# Altium footprint library PcbLib1.PcbLib: 12 footprints
Each footprint in its own frame and in the unit in brackets; x right, y up, seen from the top. Pads: shape width x height; smd on the part's side, far side on the other; paste and mask are expansions set on the pad; w line width, h text height; cw(c..) or ccw(c..) is an arc to the next point about the centre after c.
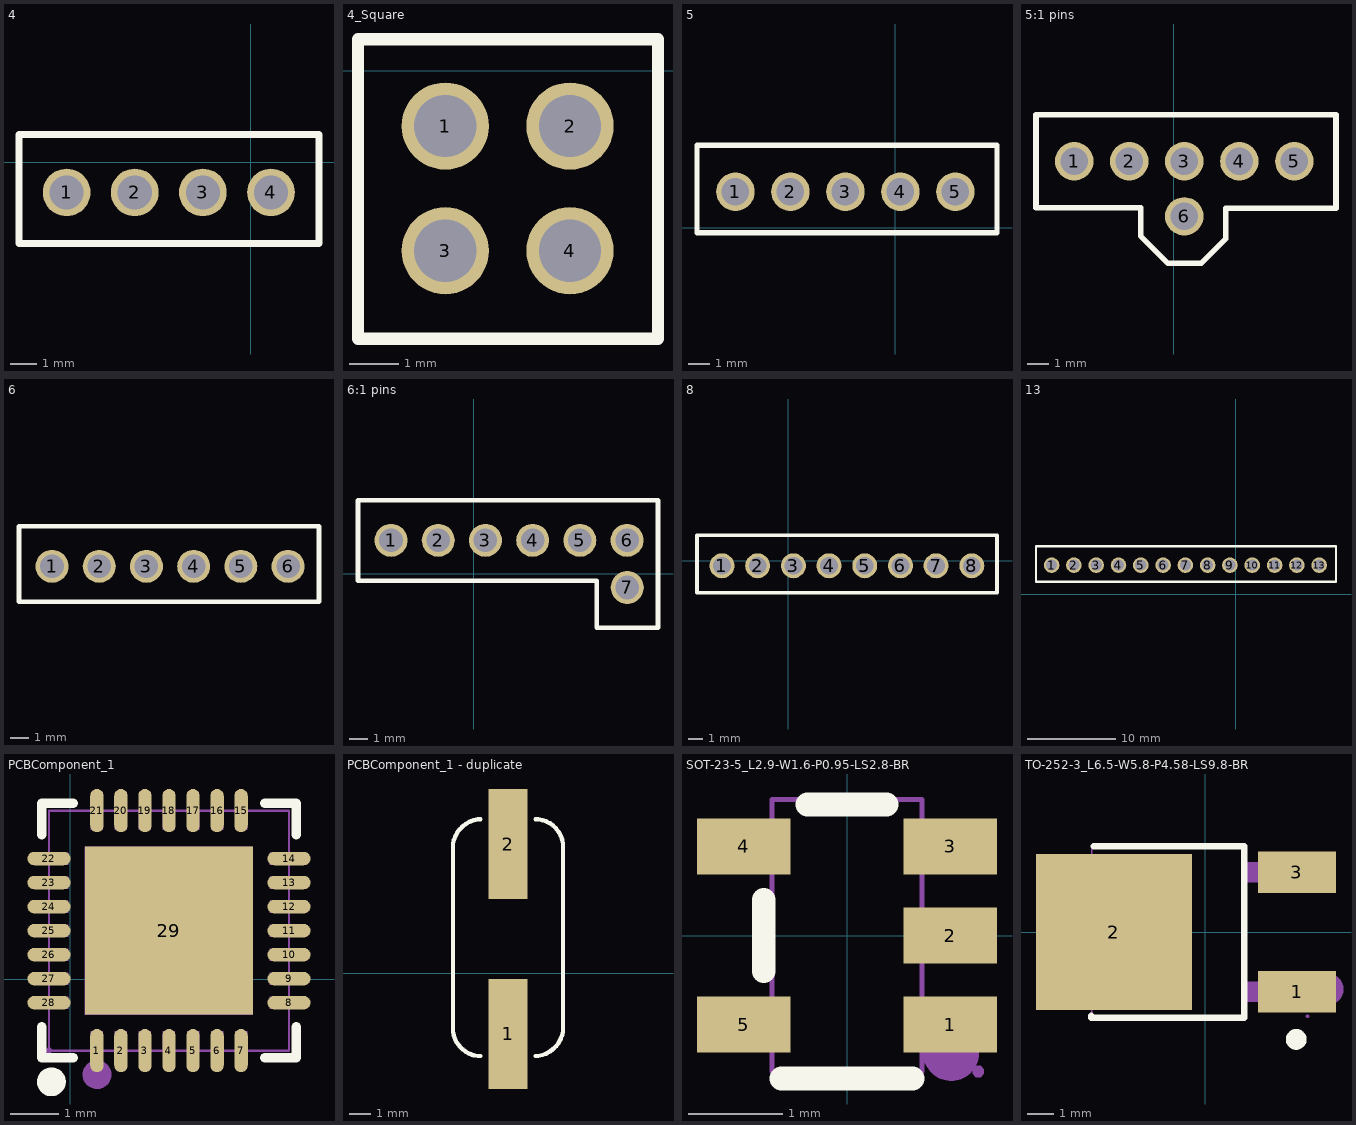
[diagram p0: the footprints below, top view; thin cyan lines are the x and y axes]

## 4 [mil]
pads (4):
  round 70 hole 50 mask+2.5: 1(-270.57,-44.52) 2(-170.57,-44.52) 3(-70.57,-44.52) 4(29.43,-44.52)
Top Overlay:
  lines w10: -340.57,-119.52 100,-119.52 100,40.48 -340.57,40.48 -340.57,-119.52

## 4_Square [mil]
pads (4):
  round 70 hole 50 mask+2.5: 1(-270.57,-44.52) 2(-170.57,-44.52) 3(-270.57,-144.52) 4(-170.57,-144.52)
Top Overlay:
  lines w10: -340.57,-215 -100,-215 -100,25 -340.57,25 -340.57,-215

## 5 [mil]
pads (5):
  round 70 hole 50 mask+2.5: 1(-290.57,65.48) 2(-190.57,65.48) 3(-90.57,65.48) 4(9.43,65.48) 5(109.43,65.48)
Top Overlay:
  lines w10: -360.57,-9.52 185,-9.52 185,150.48 -360.57,150.48 -360.57,-9.52

## 5:1 pins [mil]
pads (6):
  round 70 hole 50 mask+2.5: 1(-180.57,665.48) 2(-80.57,665.48) 3(19.43,665.48) 4(119.43,665.48) 5(219.43,665.48) 6(19.43,565.48)
Top Overlay:
  lines w10: -60,580 -60,530 -10,480 50,480 95,525 95,580 295,580 295,750.48 -250,750.48 -250,581.46 -111.46,581.46 -60,581.46

## 6 [mil]
pads (6):
  round 70 hole 50 mask+2.5: 1(-20825.57,16895.48) 2(-20725.57,16895.48) 3(-20625.57,16895.48) 4(-20525.57,16895.48) 5(-20425.57,16895.48) 6(-20325.57,16895.48)
Top Overlay:
  lines w10: -20895.57,16820.48 -20260,16820.48 -20260,16980.48 -20895.57,16980.48 -20895.57,16820.48

## 6:1 pins [mil]
pads (7):
  round 70 hole 50 mask+2.5: 1(-175.57,70.48) 2(-75.57,70.48) 3(24.43,70.48) 4(124.43,70.48) 5(224.43,70.48) 6(324.43,70.48) 7(324.89,-29.52)
Top Overlay:
  lines w10: -245.57,-15 -245.57,155.48 390,155.48 390,-115 320,-115 260,-115 260,-15 3.33,-15 -245.57,-15

## 8 [mil]
pads (8):
  round 70 hole 50 mask+2.5: 1(-185.57,-14.52) 2(-85.57,-14.52) 3(14.43,-14.52) 4(114.43,-14.52) 5(214.43,-14.52) 6(314.43,-14.52) 7(414.43,-14.52) 8(514.43,-14.52)
Top Overlay:
  lines w10: -255.57,-89.52 -255.57,70.48 585,70.48 585,-89.52 -255.57,-89.52

## 13 [mil]
pads (13):
  round 70 hole 50 mask+2.5: 1(-825.57,130.48) 2(-725.57,130.48) 3(-625.57,130.48) 4(-525.57,130.48) 5(-425.57,130.48) 6(-325.57,130.48) 7(-225.57,130.48) 8(-125.57,130.48) 9(-25.57,130.48) 10(74.43,130.48) 11(174.43,130.48) 12(274.43,130.48) 13(374.43,130.48)
Top Overlay:
  lines w10: -895.57,55.48 450,55.48 450,215.48 -895.57,215.48 -895.57,55.48

## PCBComponent_1 [mm]
pads (29):
  oval 0.28x0.9 smd paste-100 mask+0.051: 1(0.56,-1.486) 2(1.06,-1.486) 3(1.56,-1.486) 4(2.061,-1.486) 5(2.561,-1.486) 6(3.062,-1.486) 7(3.562,-1.486) 15(3.562,3.514) 16(3.062,3.514) 17(2.561,3.514) 18(2.061,3.514) 19(1.56,3.514) 20(1.06,3.514) 21(0.56,3.514)
  oval 0.9x0.28 smd paste-100 mask+0.051: 8(4.561,-0.487) 9(4.561,0.013) 10(4.561,0.513) 11(4.561,1.014) 12(4.561,1.514) 13(4.561,2.014) 14(4.561,2.515) 22(-0.439,2.515) 23(-0.439,2.014) 24(-0.439,1.514) 25(-0.439,1.014) 26(-0.439,0.513) 27(-0.439,0.013) 28(-0.439,-0.487)
  rect 3.5x3.5 smd paste-100 mask+0.051: 29(2.061,1.014)
Top Overlay:
  lines w0.2: -0.589,-0.986 -0.589,-1.636 0.061,-1.636 ; -0.589,3.014 -0.589,3.664 0.061,3.664 ; 4.061,-1.636 4.711,-1.636 4.711,-0.986 ; 4.061,3.664 4.711,3.664 4.711,3.014
  lines w0.3: -0.39,-1.986 ccw(c-0.389,-2.136) -0.388,-1.986
Top Paste:
  drawing of 29 lines, arcs and shapes, not listed
Mechanical 6:
  circle w0.3: c0.561,-1.986 r0.15
Mechanical 15:
  drawing of 34 lines, arcs and shapes, not listed

## PCBComponent_1 - duplicate [mil]
pads (2):
  rect 70x200 smd: 1(302.32,-110.71) 2(302.32,234.29)
Top Overlay:
  lines w8: 252.32,-150.71 247.32,-150.71 cw(c253.11,-99.92) 202.32,-105.71 202.32,234.29 cw(c255.79,225.83) 247.32,279.29 252.32,279.29 ; 352.32,-150.71 357.32,-150.71 ; 352.32,279.29 357.32,279.29 cw(c351.54,228.51) 402.32,234.29 402.32,-105.71 ; 357.33,-150.71 ccw(c348.86,-97.24) 402.33,-105.71
3D body: height 185.04, standoff 0, extent 202.32,-150.71 402.32,279.29

## SOT-23-5_L2.9-W1.6-P0.95-LS2.8-BR [mm]
pads (5):
  rect 1x0.6 smd paste+0 mask+0.05: 1(1.1,-0.95) 2(1.1,0) 3(1.1,0.95) 4(-1.1,0.95) 5(-1.1,-0.95)
Top Overlay:
  lines w0.254: -0.889,-0.381 -0.889,0.381 ; -0.699,-1.524 0.698,-1.524 ; -0.422,1.397 0.422,1.397
Mechanical 6:
  circle w0.3: c1.11,-1.25 r0.15
Mechanical 15:
  region: 0.96,-0.2 0.79,-0.2 0.79,0.2 0.96,0.2
  region: 1.4,-0.2 0.95,-0.2 0.95,0.2 1.4,0.2
  region: 0.96,0.75 0.79,0.75 0.79,1.15 0.96,1.15
  region: 1.4,0.75 0.95,0.75 0.95,1.15 1.4,1.15
  region: 0.96,-1.15 0.79,-1.15 0.79,-0.75 0.96,-0.75
  region: 1.4,-1.15 0.95,-1.15 0.95,-0.75 1.4,-0.75
  region: -0.79,0.75 -0.96,0.75 -0.96,1.15 -0.79,1.15
  region: -0.95,0.75 -1.4,0.75 -1.4,1.15 -0.95,1.15
  region: -0.79,-1.15 -0.96,-1.15 -0.96,-0.75 -0.79,-0.75
  region: -0.95,-1.15 -1.4,-1.15 -1.4,-0.75 -0.95,-0.75
  region: 1.46,-1.45 1.46,-1.425 1.425,-1.39 1.375,-1.39 1.34,-1.425 1.34,-1.45 1.34,-1.475 1.375,-1.51 1.425,-1.51 1.46,-1.475
  lines w0.051: -0.8,-1.45 -0.8,1.45 0.8,1.45 0.8,-1.45 -0.8,-1.45

## TO-252-3_L6.5-W5.8-P4.58-LS9.8-BR [mm]
pads (3):
  rect 3x1.6 smd paste+0 mask+0.051: 1(3.528,-2.299) 3(3.522,2.299)
  rect 6x6 smd paste+0 mask+0.051: 2(-3.528,0.001)
Top Overlay:
  lines w0.254: -4.4,-3.23 -4.4,-3.3 1.5,-3.3 1.5,3.3 -4.3,3.3
  lines w0.4: 3.494,-3.937 ccw(c3.495,-4.137) 3.497,-3.937
Mechanical 6:
  circle w0.6: c4.724,-2.205 r0.3
Mechanical 15:
  region: 2.739,-1.919 2.739,-2.679 1.379,-2.679 1.379,-1.919
  region: 3.929,-1.919 3.929,-2.679 2.729,-2.679 2.729,-1.919
  region: 2.739,2.679 2.739,1.919 1.379,1.919 1.379,2.679
  region: 3.929,2.679 3.929,1.919 2.729,1.919 2.729,2.679
  region: -0.671,2.9 -0.671,-2.771 -5.371,-2.771 -5.871,-2.55 -5.871,2.55 -5.371,2.9
  region: 3.989,-3.246 3.989,-3.221 3.954,-3.186 3.904,-3.186 3.869,-3.221 3.869,-3.246 3.869,-3.271 3.904,-3.306 3.954,-3.306 3.989,-3.271
  lines w0.051: -4.371,-3.246 -4.371,3.254 1.429,3.254 1.429,-3.246 -4.371,-3.246